# Altium schematic symbol library POC_Marvin.SchLib: 12 symbols
Pins are listed as number, name and electrical type; pins without a type are passive.

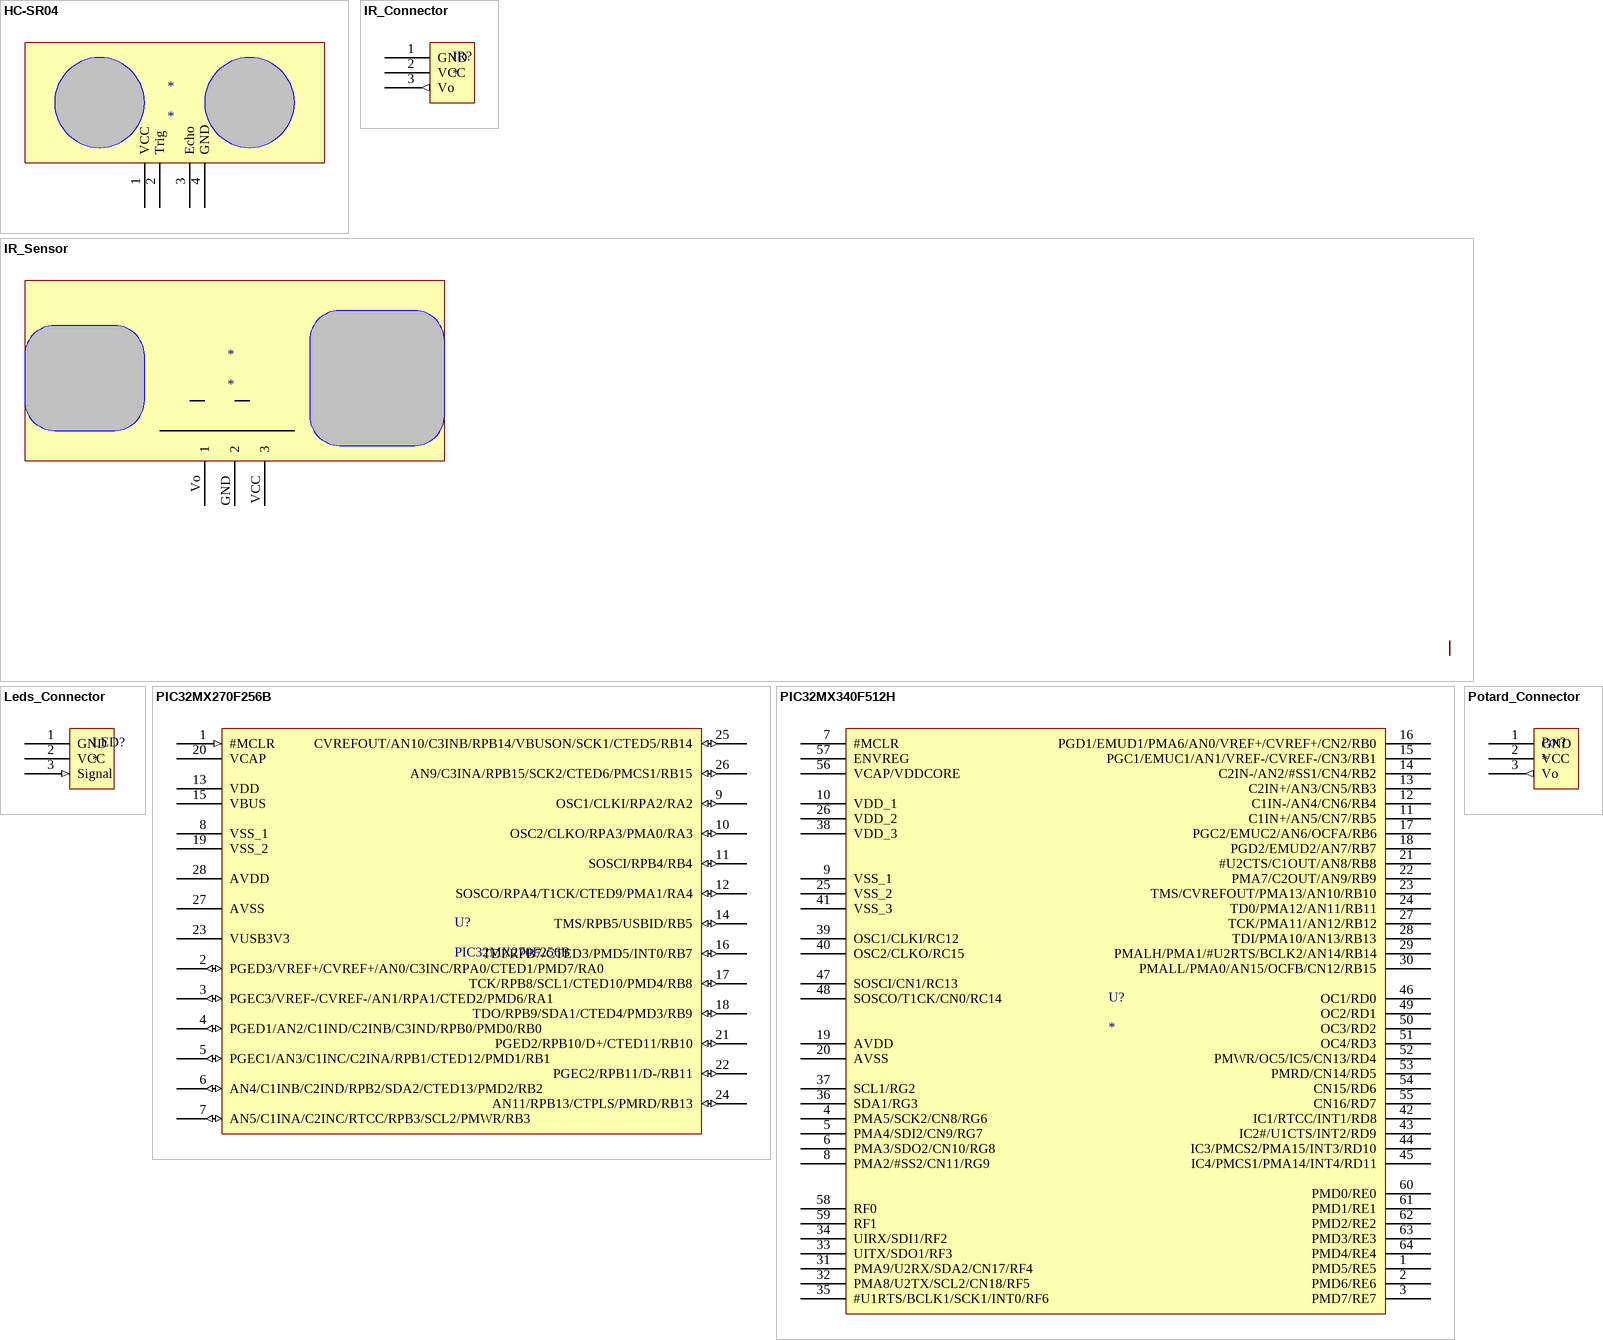
[diagram p0: symbols HC-SR04 to Potard_Connector]

## HC-SR04
designator *
pins: 1 VCC, 2 Trig, 3 Echo, 4 GND

## IR_Connector
designator IR?
Female Embase 3 contacts; fournisseur: Farnell; reffournisseur: 1845931; fabricant: TE CONNECTIVITY / AMP; reffabricant: 5-534237-1
footprint IR SENSOR CONNECTOR
pins: 1 GND (power), 2 VCC (power), 3 Vo (out)

## IR_Sensor
designator *
fournisseur: Olimex; reffournisseur: SNS-GP2Y0A21YK0F; fabricant: Sharp; reffabricant: SNS-GP2Y0A21YK0F
pins: GND 2 (power) "masse", VCC 3 (power) "masse", Vo 1 (power) "Output terminal Voltage"

## Leds_Connector
designator LED?
Female Embase 3 contacts; fournisseur: Farnell; reffournisseur: 1845931; fabricant: TE CONNECTIVITY / AMP; reffabricant: 5-534237-1
footprint LEDS CONNECTOR
pins: 1 GND (power), 2 VCC (power), 3 Signal (in)

## PIC32MX270F256B
designator U?
fournisseur: Farnell; reffournisseur: 2419680; fabricant: Microchip; reffabricant: PIC32MX270F256B-50I/SO
footprint SOIC28 (PIC32MX270F256B)
pins: 1 #MCLR (in), 2 PGED3/VREF+/CVREF+/AN0/C3INC/RPA0/CTED1/PMD7/RA0 (io), 3 PGEC3/VREF-/CVREF-/AN1/RPA1/CTED2/PMD6/RA1 (io), 4 PGED1/AN2/C1IND/C2INB/C3IND/RPB0/PMD0/RB0 (io), 5 PGEC1/AN3/C1INC/C2INA/RPB1/CTED12/PMD1/RB1 (io), 6 AN4/C1INB/C2IND/RPB2/SDA2/CTED13/PMD2/RB2 (io), 7 AN5/C1INA/C2INC/RTCC/RPB3/SCL2/PMWR/RB3 (io), 8 VSS_1 (power), 9 OSC1/CLKI/RPA2/RA2 (io), 10 OSC2/CLKO/RPA3/PMA0/RA3 (io), 11 SOSCI/RPB4/RB4 (io), 12 SOSCO/RPA4/T1CK/CTED9/PMA1/RA4 (io), 13 VDD (power), 14 TMS/RPB5/USBID/RB5 (io), 15 VBUS (power), 16 TDI/RPB7/CTED3/PMD5/INT0/RB7 (io), 17 TCK/RPB8/SCL1/CTED10/PMD4/RB8 (io), 18 TDO/RPB9/SDA1/CTED4/PMD3/RB9 (io), 19 VSS_2 (power), 20 VCAP (power), 21 PGED2/RPB10/D+/CTED11/RB10 (io), 22 PGEC2/RPB11/D-/RB11 (io), 23 VUSB3V3 (power), 24 AN11/RPB13/CTPLS/PMRD/RB13 (io), 25 CVREFOUT/AN10/C3INB/RPB14/VBUSON/SCK1/CTED5/RB14 (io), 26 AN9/C3INA/RPB15/SCK2/CTED6/PMCS1/RB15 (io), 27 AVSS (power), 28 AVDD (power)

## PIC32MX340F512H
designator U?
pins: 1 PMD5/RE5, 2 PMD6/RE6, 3 PMD7/RE7, 4 PMA5/SCK2/CN8/RG6, 5 PMA4/SDI2/CN9/RG7, 6 PMA3/SDO2/CN10/RG8, 7 #MCLR, 8 PMA2/#SS2/CN11/RG9, 9 VSS_1, 10 VDD_1, 11 C1IN+/AN5/CN7/RB5, 12 C1IN-/AN4/CN6/RB4, 13 C2IN+/AN3/CN5/RB3, 14 C2IN-/AN2/#SS1/CN4/RB2, 15 PGC1/EMUC1/AN1/VREF-/CVREF-/CN3/RB1, 16 PGD1/EMUD1/PMA6/AN0/VREF+/CVREF+/CN2/RB0, 17 PGC2/EMUC2/AN6/OCFA/RB6, 18 PGD2/EMUD2/AN7/RB7, 19 AVDD, 20 AVSS, 21 #U2CTS/C1OUT/AN8/RB8, 22 PMA7/C2OUT/AN9/RB9, 23 TMS/CVREFOUT/PMA13/AN10/RB10, 24 TD0/PMA12/AN11/RB11, 25 VSS_2, 26 VDD_2, 27 TCK/PMA11/AN12/RB12, 28 TDI/PMA10/AN13/RB13, 29 PMALH/PMA1/#U2RTS/BCLK2/AN14/RB14, 30 PMALL/PMA0/AN15/OCFB/CN12/RB15, 31 PMA9/U2RX/SDA2/CN17/RF4, 32 PMA8/U2TX/SCL2/CN18/RF5, 33 UITX/SDO1/RF3, 34 UIRX/SDI1/RF2, 35 #U1RTS/BCLK1/SCK1/INT0/RF6, 36 SDA1/RG3, 37 SCL1/RG2, 38 VDD_3, 39 OSC1/CLKI/RC12, 40 OSC2/CLKO/RC15, 41 VSS_3, 42 IC1/RTCC/INT1/RD8, 43 IC2#/U1CTS/INT2/RD9, 44 IC3/PMCS2/PMA15/INT3/RD10, 45 IC4/PMCS1/PMA14/INT4/RD11, 46 OC1/RD0, 47 SOSCI/CN1/RC13, 48 SOSCO/T1CK/CN0/RC14, 49 OC2/RD1, 50 OC3/RD2, 51 OC4/RD3, 52 PMWR/OC5/IC5/CN13/RD4, 53 PMRD/CN14/RD5, 54 CN15/RD6, 55 CN16/RD7, 56 VCAP/VDDCORE, 57 ENVREG, 58 RF0, 59 RF1, 60 PMD0/RE0, 61 PMD1/RE1, 62 PMD2/RE2, 63 PMD3/RE3, 64 PMD4/RE4

## Potard_Connector
designator Pot?
Female Embase 3 contacts; fournisseur: Farnell; reffournisseur: 1845931; fabricant: TE CONNECTIVITY / AMP; reffabricant: 5-534237-1
footprint POTARD CONNECTOR
pins: 1 GND (power), 2 VCC (power), 3 Vo (out)

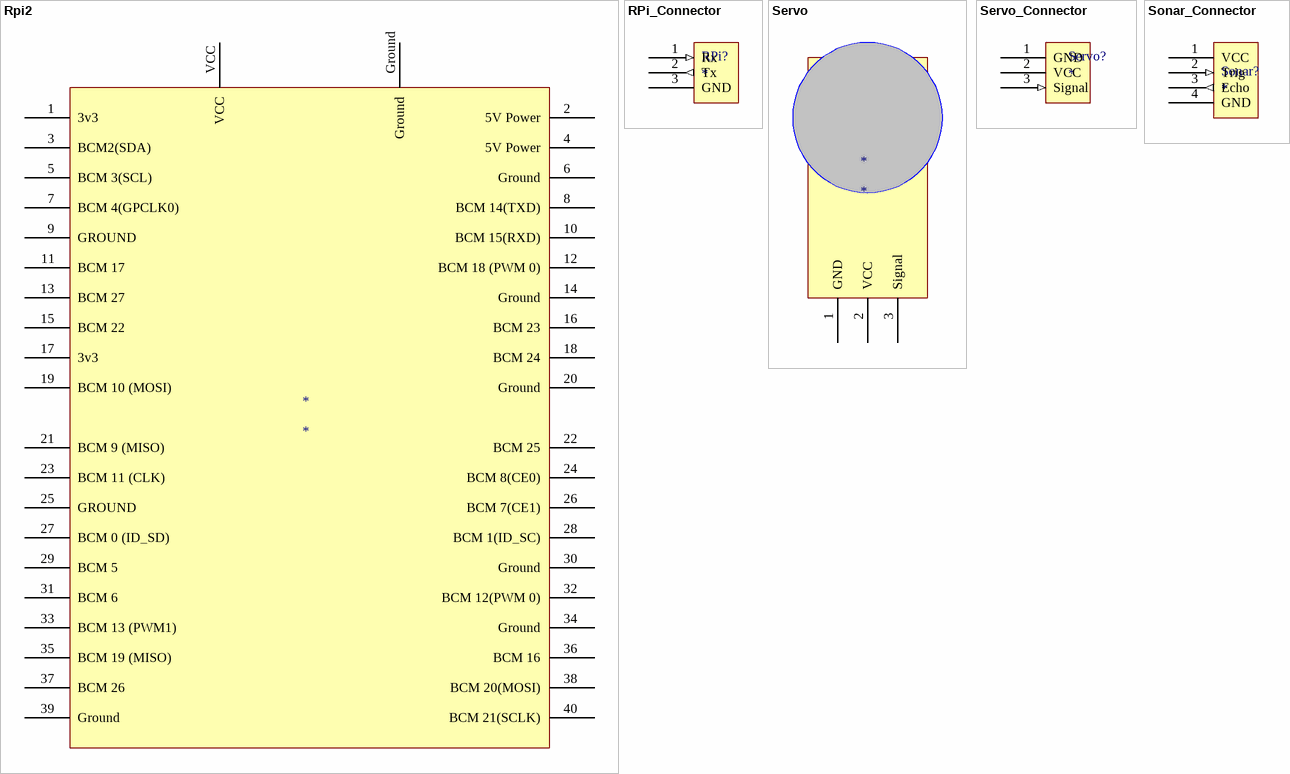
[diagram p1: symbols Rpi2 to Sonar_Connector]

## Rpi2
designator *
pins: 1 3v3 (power), 2 5V Power (power), 3 BCM2(SDA), 4 5V Power (power), 5 BCM 3(SCL) (power), 6 Ground (power), 7 BCM 4(GPCLK0) (power), 8 BCM 14(TXD) (power), 9 GROUND (power), 10 BCM 15(RXD) (power), 11 BCM 17 (power), 12 BCM 18 (PWM 0) (power), 13 BCM 27 (power), 14 Ground (power), 15 BCM 22 (power), 16 BCM 23 (power), 17 3v3 (power), 18 BCM 24 (power), 19 BCM 10 (MOSI) (power), 20 Ground (power), 21 BCM 9 (MISO) (power), 22 BCM 25 (power), 23 BCM 11 (CLK) (power), 24 BCM 8(CE0) (power), 25 GROUND (power), 26 BCM 7(CE1) (power), 27 BCM 0 (ID_SD) (power), 28 BCM 1(ID_SC) (power), 29 BCM 5 (power), 30 Ground (power), 31 BCM 6 (power), 32 BCM 12(PWM 0) (power), 33 BCM 13 (PWM1) (power), 34 Ground (power), 35 BCM 19 (MISO) (power), 36 BCM 16 (power), 37 BCM 26 (power), 38 BCM 20(MOSI) (power), 39 Ground (power), 40 BCM 21(SCLK) (power), Ground (power), VCC (power)

## RPi_Connector
designator RPi?
Female Embase 3 contacts; fournisseur: Farnell; reffournisseur: 1845959; fabricant: TE CONNECTIVITY / AMP; reffabricant: 5-534237-2
footprint RPI CONNECTOR
pins: 1 Rx (in), 2 Tx (out), 3 GND (power)

## Servo
designator *
pins: 1 GND, 2 VCC, 3 Signal

## Servo_Connector
designator Servo?
Female Embase 3 contacts; fournisseur: Farnell; reffournisseur: 1845931; fabricant: TE CONNECTIVITY / AMP; reffabricant: 5-534237-1
footprint SERVO CONNECTOR
pins: 1 GND (power), 2 VCC (power), 3 Signal (in)

## Sonar_Connector
designator Sonar?
Female Embase 4 contacts; fournisseur: Farnell; reffournisseur: 1845959; fabricant: TE CONNECTIVITY / AMP; reffabricant: 5-534237-2
footprint SONAR CONNECTOR
pins: 1 VCC (power), 2 Trig (in), 3 Echo (out), 4 GND (power)